# Altium integrated library TI Power Management Power Modules.IntLib: 831 symbols (part 18 of 44)
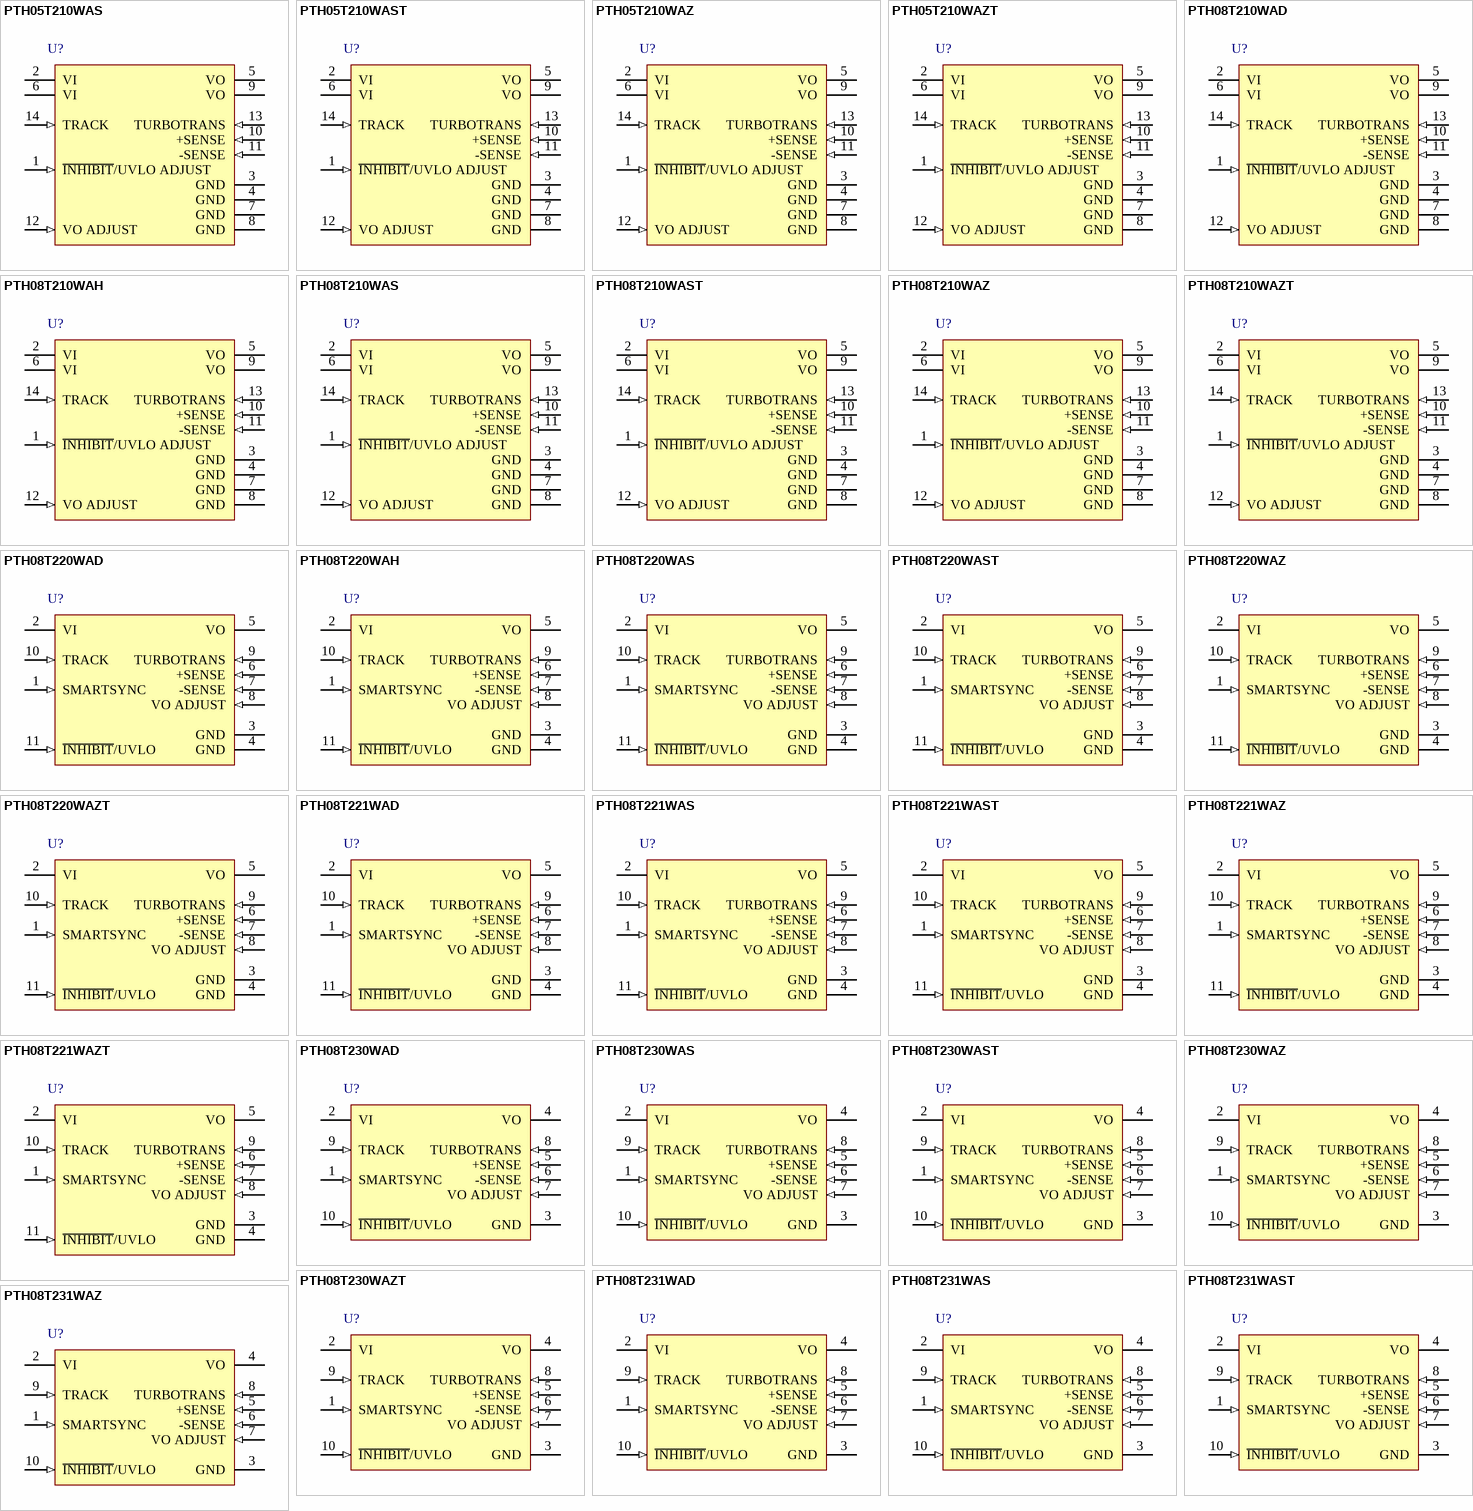
[diagram p40: symbols PTH05T210WAS to PTH08T231WAZ]

## PTH08T230WAZT
designator U?
6 A, 4.5 to 14 V Input, Non-Isolated, Wide Output Adjustable Power Module with TurboTrans, -40 to 85 degC, 10-pin Module (BCM10), Pb-Free (RoHS); Manufacturer: Texas Instruments; PartNumber: PTH08T230WAZT; Iout(Max)(A): 6; Regulated Outputs(#): 1; SubFamily: Non-Isolated POL; Vin(Max)(V): 14; Vin(Min)(V): 4.5; VO Adjustable: TRUE; Vout(Max)(V): 5.5; Vout(Min)(V): 0.69; DatasheetVersion: SLTS265L; PackageVersion: 4207915/E; PackageReference: BCM10; PackageDescription: 10-Pin Plastic Special Shape, Body 15.75 x 18.92 mm; Supplier 1: Digi-Key; Supplier Part Number 1: 296-31711-2-ND; Supplier 2: Digi-Key; Supplier Part Number 2: 296-31711-1-ND; Supplier 3: Digi-Key; Supplier Part Number 3: 296-31711-6-ND; Supplier 4: Newark; Supplier Part Number 4: 03M9755; Supplier 5: Mouser; Supplier Part Number 5: 595-PTH08T230WAZT; Eco-Plan: Pb-Free (RoHS); Mounting Technology: Surface Mount; ComponentLink1Description: Manufacturer URL; ComponentLink1URL: http://www.ti.com/; ComponentLink2Description: Datasheet; ComponentLink2URL: http://www.ti.com/general/docs/lit/getliterature.tsp?genericPartNumber=PTH08T230W&fileType=pdf; ComponentLink3Description: Package Specification; ComponentLink3URL: http://www.ti.com/lit/ml/mpds292d/mpds292d.pdf; ComponentLink4Description: URL Link1; ComponentLink4URL: Samples URL:http://www.ti.com/product/pth08t230w#samples
footprint TI-BCM10_V (10-Leads Double Sided Module, Body 18.92x15.75mm)
pins: 1 SMARTSYNC (in) "This input pin sychronizes the switching frequency of the module to an external clock frequency. The SmartSync feature can be used to sychronize the switching fequency of multiple PTH04T230/231W modules, aiding EMI noise (See Datasheet)", 2 VI (power) "The positive input voltage power node to the module, which is referenced to common GND.", 3 GND (power) "This is the common ground connection for the VI and VO power connections. It is also the 0 Vdc reference for the control inputs.", 4 VO (power) "The regulated positive power output with respect to the GND", 5 +SENSE (in) "The sense input allows the regulation circuit to compensate for voltage drop between the module and the load. For optimal voltage accuracy, +Sense must be connected to VO, close to the load.", 6 -SENSE (in) "The sense input allows the regulation circuit to compensate for voltage drop between the module and the load. For optimal voltage accuracy, -Sense must be connected to GND (pin 3), very close to the module (within 10 cm).", 7 VO ADJUST (in) "A 0.05 W 1% resistor must be directly connected between this pin and pin 6 (- Sense) to set the output voltage to a value higher than 0.69 V. The temperature stability of the resistor should be 100 ppm/degreesC (or better). (See Datasheet)", 8 TURBOTRANS (in) "This input pin adjusts the transient response of the regulator. To activate the TurboTrans feature, a 1%, 0.05 W resistor must be connected between this pin and pin 5 (+Sense) very close to the module. For a given value of (See Datasheet)", 9 TRACK (in) "This is an analog control input that enables the output voltage to follow an external voltage. This pin becomes active typically 20 ms after the input voltage has been applied, and allows direct control of the output voltage (See Datasheet)", 10 ~{INHIBIT}/UVLO (in) "The Inhibit pin is an open-collector/drain, negative logic input that is referenced to GND. Applying a low level ground signal to this input disables the module’s output and turns off the output voltage. When the Inhibit (See Datasheet)"

## PTH08T231WAD
designator U?
6 A, 4.5 to 14 V Input, Ceramic Cap Version, Non-Iso, Wide Output, Adjust Power Module with TurboTrans, -40 to 85 degC, 10-pin Module (ECL10), Pb-Free (RoHS); Manufacturer: Texas Instruments; PartNumber: PTH08T231WAD; Iout(Max)(A): 6; Regulated Outputs(#): 1; SubFamily: Non-Isolated POL; Vin(Max)(V): 14; Vin(Min)(V): 4.5; VO Adjustable: TRUE; Vout(Max)(V): 5.5; Vout(Min)(V): 0.69; DatasheetVersion: SLTS265L; PackageVersion: 4207913/D; PackageReference: ECL10; PackageDescription: 10-Pin Plastic Special Shape, Body 15.75 x 18.92 mm; Supplier 1: Digi-Key; Supplier Part Number 1: 296-21587-ND; Supplier 2: Newark; Supplier Part Number 2: 31M0354; Supplier 3: Mouser; Supplier Part Number 3: 595-PTH08T231WAD; Eco-Plan: Pb-Free (RoHS); Mounting Technology: Through Hole; ComponentLink1Description: Manufacturer URL; ComponentLink1URL: http://www.ti.com/; ComponentLink2Description: Datasheet; ComponentLink2URL: http://www.ti.com/general/docs/lit/getliterature.tsp?genericPartNumber=PTH08T231W&fileType=pdf; ComponentLink3Description: Package Specification; ComponentLink3URL: http://www.ti.com/litv/pdf/mpds290c; ComponentLink4Description: URL Link1; ComponentLink4URL: Samples URL:http://www.ti.com/product/pth08t231w#samples
footprint TI-ECL10_V (Module, 10-Leads, Body 18.92x15.75 mm)
pins: 1 SMARTSYNC (in) "This input pin sychronizes the switching frequency of the module to an external clock frequency. The SmartSync feature can be used to sychronize the switching fequency of multiple PTH04T230/231W modules, aiding EMI noise (See Datasheet)", 2 VI (power) "The positive input voltage power node to the module, which is referenced to common GND.", 3 GND (power) "This is the common ground connection for the VI and VO power connections. It is also the 0 Vdc reference for the control inputs.", 4 VO (power) "The regulated positive power output with respect to the GND", 5 +SENSE (in) "The sense input allows the regulation circuit to compensate for voltage drop between the module and the load. For optimal voltage accuracy, +Sense must be connected to VO, close to the load.", 6 -SENSE (in) "The sense input allows the regulation circuit to compensate for voltage drop between the module and the load. For optimal voltage accuracy, -Sense must be connected to GND (pin 3), very close to the module (within 10 cm).", 7 VO ADJUST (in) "A 0.05 W 1% resistor must be directly connected between this pin and pin 6 (- Sense) to set the output voltage to a value higher than 0.69 V. The temperature stability of the resistor should be 100 ppm/degreesC (or better). (See Datasheet)", 8 TURBOTRANS (in) "This input pin adjusts the transient response of the regulator. To activate the TurboTrans feature, a 1%, 0.05 W resistor must be connected between this pin and pin 5 (+Sense) very close to the module. For a given value of (See Datasheet)", 9 TRACK (in) "This is an analog control input that enables the output voltage to follow an external voltage. This pin becomes active typically 20 ms after the input voltage has been applied, and allows direct control of the output voltage (See Datasheet)", 10 ~{INHIBIT}/UVLO (in) "The Inhibit pin is an open-collector/drain, negative logic input that is referenced to GND. Applying a low level ground signal to this input disables the module’s output and turns off the output voltage. When the Inhibit (See Datasheet)"

## PTH08T231WAS
designator U?
6 A, 4.5 to 14 V Input, Ceramic Cap Version, Non-Iso, Wide Output, Adjust Power Module with TurboTrans, -40 to 85 degC, 10-pin Module (ECM10); Manufacturer: Texas Instruments; PartNumber: PTH08T231WAS; Eco-Plan: TBD; Iout(Max)(A): 6; Regulated Outputs(#): 1; SubFamily: Non-Isolated POL; Vin(Max)(V): 14; Vin(Min)(V): 4.5; VO Adjustable: TRUE; Vout(Max)(V): 5.5; Vout(Min)(V): 0.69; DatasheetVersion: SLTS265L; PackageVersion: 4207914/E; PackageReference: ECM10; PackageDescription: 10-Pin Plastic Special Shape, Body 15.75 x 18.92 mm; Supplier 1: Digi-Key; Supplier Part Number 1: 296-21588-ND; Supplier 2: Farnell; Supplier Part Number 2: 1659630; Supplier 3: Newark; Supplier Part Number 3: 12P7788; Supplier 4: Newark; Supplier Part Number 4: 31M0355; Supplier 5: Mouser; Supplier Part Number 5: 595-PTH08T231WAS; Mounting Technology: Surface Mount; ComponentLink1Description: Manufacturer URL; ComponentLink1URL: http://www.ti.com/; ComponentLink2Description: Datasheet; ComponentLink2URL: http://www.ti.com/general/docs/lit/getliterature.tsp?genericPartNumber=PTH08T231W&fileType=pdf; ComponentLink3Description: Package Specification; ComponentLink3URL: http://www.ti.com/litv/pdf/mpds291d; ComponentLink4Description: URL Link1; ComponentLink4URL: Samples URL:http://www.ti.com/product/pth08t231w#samples
footprint TI-ECM10_V (Module, 10-Leads, Body 18.92x15.75mm)
pins: 1 SMARTSYNC (in) "This input pin sychronizes the switching frequency of the module to an external clock frequency. The SmartSync feature can be used to sychronize the switching fequency of multiple PTH04T230/231W modules, aiding EMI noise (See Datasheet)", 2 VI (power) "The positive input voltage power node to the module, which is referenced to common GND.", 3 GND (power) "This is the common ground connection for the VI and VO power connections. It is also the 0 Vdc reference for the control inputs.", 4 VO (power) "The regulated positive power output with respect to the GND", 5 +SENSE (in) "The sense input allows the regulation circuit to compensate for voltage drop between the module and the load. For optimal voltage accuracy, +Sense must be connected to VO, close to the load.", 6 -SENSE (in) "The sense input allows the regulation circuit to compensate for voltage drop between the module and the load. For optimal voltage accuracy, -Sense must be connected to GND (pin 3), very close to the module (within 10 cm).", 7 VO ADJUST (in) "A 0.05 W 1% resistor must be directly connected between this pin and pin 6 (- Sense) to set the output voltage to a value higher than 0.69 V. The temperature stability of the resistor should be 100 ppm/degreesC (or better). (See Datasheet)", 8 TURBOTRANS (in) "This input pin adjusts the transient response of the regulator. To activate the TurboTrans feature, a 1%, 0.05 W resistor must be connected between this pin and pin 5 (+Sense) very close to the module. For a given value of (See Datasheet)", 9 TRACK (in) "This is an analog control input that enables the output voltage to follow an external voltage. This pin becomes active typically 20 ms after the input voltage has been applied, and allows direct control of the output voltage (See Datasheet)", 10 ~{INHIBIT}/UVLO (in) "The Inhibit pin is an open-collector/drain, negative logic input that is referenced to GND. Applying a low level ground signal to this input disables the module’s output and turns off the output voltage. When the Inhibit (See Datasheet)"

## PTH08T231WAST
designator U?
6 A, 4.5 to 14 V Input, Ceramic Cap Version, Non-Iso, Wide Output, Adjust Power Module with TurboTrans, -40 to 85 degC, 10-pin Module (ECM10); Manufacturer: Texas Instruments; PartNumber: PTH08T231WAST; Eco-Plan: TBD; Iout(Max)(A): 6; Regulated Outputs(#): 1; SubFamily: Non-Isolated POL; Vin(Max)(V): 14; Vin(Min)(V): 4.5; VO Adjustable: TRUE; Vout(Max)(V): 5.5; Vout(Min)(V): 0.69; DatasheetVersion: SLTS265L; PackageVersion: 4207914/E; PackageReference: ECM10; PackageDescription: 10-Pin Plastic Special Shape, Body 15.75 x 18.92 mm; Supplier 1: Digi-Key; Supplier Part Number 1: PTH08T231WAST-ND; Supplier 2: Mouser; Supplier Part Number 2: 595-PTH08T231WAST; Mounting Technology: Surface Mount; ComponentLink1Description: Manufacturer URL; ComponentLink1URL: http://www.ti.com/; ComponentLink2Description: Datasheet; ComponentLink2URL: http://www.ti.com/general/docs/lit/getliterature.tsp?genericPartNumber=PTH08T231W&fileType=pdf; ComponentLink3Description: Package Specification; ComponentLink3URL: http://www.ti.com/litv/pdf/mpds291d; ComponentLink4Description: URL Link1; ComponentLink4URL: Samples URL:http://www.ti.com/product/pth08t231w#samples
footprint TI-ECM10_V (Module, 10-Leads, Body 18.92x15.75mm)
pins: 1 SMARTSYNC (in) "This input pin sychronizes the switching frequency of the module to an external clock frequency. The SmartSync feature can be used to sychronize the switching fequency of multiple PTH04T230/231W modules, aiding EMI noise (See Datasheet)", 2 VI (power) "The positive input voltage power node to the module, which is referenced to common GND.", 3 GND (power) "This is the common ground connection for the VI and VO power connections. It is also the 0 Vdc reference for the control inputs.", 4 VO (power) "The regulated positive power output with respect to the GND", 5 +SENSE (in) "The sense input allows the regulation circuit to compensate for voltage drop between the module and the load. For optimal voltage accuracy, +Sense must be connected to VO, close to the load.", 6 -SENSE (in) "The sense input allows the regulation circuit to compensate for voltage drop between the module and the load. For optimal voltage accuracy, -Sense must be connected to GND (pin 3), very close to the module (within 10 cm).", 7 VO ADJUST (in) "A 0.05 W 1% resistor must be directly connected between this pin and pin 6 (- Sense) to set the output voltage to a value higher than 0.69 V. The temperature stability of the resistor should be 100 ppm/degreesC (or better). (See Datasheet)", 8 TURBOTRANS (in) "This input pin adjusts the transient response of the regulator. To activate the TurboTrans feature, a 1%, 0.05 W resistor must be connected between this pin and pin 5 (+Sense) very close to the module. For a given value of (See Datasheet)", 9 TRACK (in) "This is an analog control input that enables the output voltage to follow an external voltage. This pin becomes active typically 20 ms after the input voltage has been applied, and allows direct control of the output voltage (See Datasheet)", 10 ~{INHIBIT}/UVLO (in) "The Inhibit pin is an open-collector/drain, negative logic input that is referenced to GND. Applying a low level ground signal to this input disables the module’s output and turns off the output voltage. When the Inhibit (See Datasheet)"

## PTH08T231WAZ
designator U?
6 A, 4.5 to 14 V Input, Ceramic Cap Version, Non-Iso, Wide Output, Adjust Power Module with TurboTrans, -40 to 85 degC, 10-pin Module (BCM10), Pb-Free (RoHS); Manufacturer: Texas Instruments; PartNumber: PTH08T231WAZ; Iout(Max)(A): 6; Regulated Outputs(#): 1; SubFamily: Non-Isolated POL; Vin(Max)(V): 14; Vin(Min)(V): 4.5; VO Adjustable: TRUE; Vout(Max)(V): 5.5; Vout(Min)(V): 0.69; DatasheetVersion: SLTS265L; PackageVersion: 4207915/E; PackageReference: BCM10; PackageDescription: 10-Pin Plastic Special Shape, Body 15.75 x 18.92 mm; Supplier 1: Digi-Key; Supplier Part Number 1: 296-21589-ND; Supplier 2: Newark; Supplier Part Number 2: 31M0357; Supplier 3: Mouser; Supplier Part Number 3: 595-PTH08T231WAZ; Eco-Plan: Pb-Free (RoHS); Mounting Technology: Surface Mount; ComponentLink1Description: Manufacturer URL; ComponentLink1URL: http://www.ti.com/; ComponentLink2Description: Datasheet; ComponentLink2URL: http://www.ti.com/general/docs/lit/getliterature.tsp?genericPartNumber=PTH08T231W&fileType=pdf; ComponentLink3Description: Package Specification; ComponentLink3URL: http://www.ti.com/lit/ml/mpds292d/mpds292d.pdf; ComponentLink4Description: URL Link1; ComponentLink4URL: Samples URL:http://www.ti.com/product/pth08t231w#samples
footprint TI-BCM10_V (10-Leads Double Sided Module, Body 18.92x15.75mm)
pins: 1 SMARTSYNC (in) "This input pin sychronizes the switching frequency of the module to an external clock frequency. The SmartSync feature can be used to sychronize the switching fequency of multiple PTH04T230/231W modules, aiding EMI noise (See Datasheet)", 2 VI (power) "The positive input voltage power node to the module, which is referenced to common GND.", 3 GND (power) "This is the common ground connection for the VI and VO power connections. It is also the 0 Vdc reference for the control inputs.", 4 VO (power) "The regulated positive power output with respect to the GND", 5 +SENSE (in) "The sense input allows the regulation circuit to compensate for voltage drop between the module and the load. For optimal voltage accuracy, +Sense must be connected to VO, close to the load.", 6 -SENSE (in) "The sense input allows the regulation circuit to compensate for voltage drop between the module and the load. For optimal voltage accuracy, -Sense must be connected to GND (pin 3), very close to the module (within 10 cm).", 7 VO ADJUST (in) "A 0.05 W 1% resistor must be directly connected between this pin and pin 6 (- Sense) to set the output voltage to a value higher than 0.69 V. The temperature stability of the resistor should be 100 ppm/degreesC (or better). (See Datasheet)", 8 TURBOTRANS (in) "This input pin adjusts the transient response of the regulator. To activate the TurboTrans feature, a 1%, 0.05 W resistor must be connected between this pin and pin 5 (+Sense) very close to the module. For a given value of (See Datasheet)", 9 TRACK (in) "This is an analog control input that enables the output voltage to follow an external voltage. This pin becomes active typically 20 ms after the input voltage has been applied, and allows direct control of the output voltage (See Datasheet)", 10 ~{INHIBIT}/UVLO (in) "The Inhibit pin is an open-collector/drain, negative logic input that is referenced to GND. Applying a low level ground signal to this input disables the module’s output and turns off the output voltage. When the Inhibit (See Datasheet)"

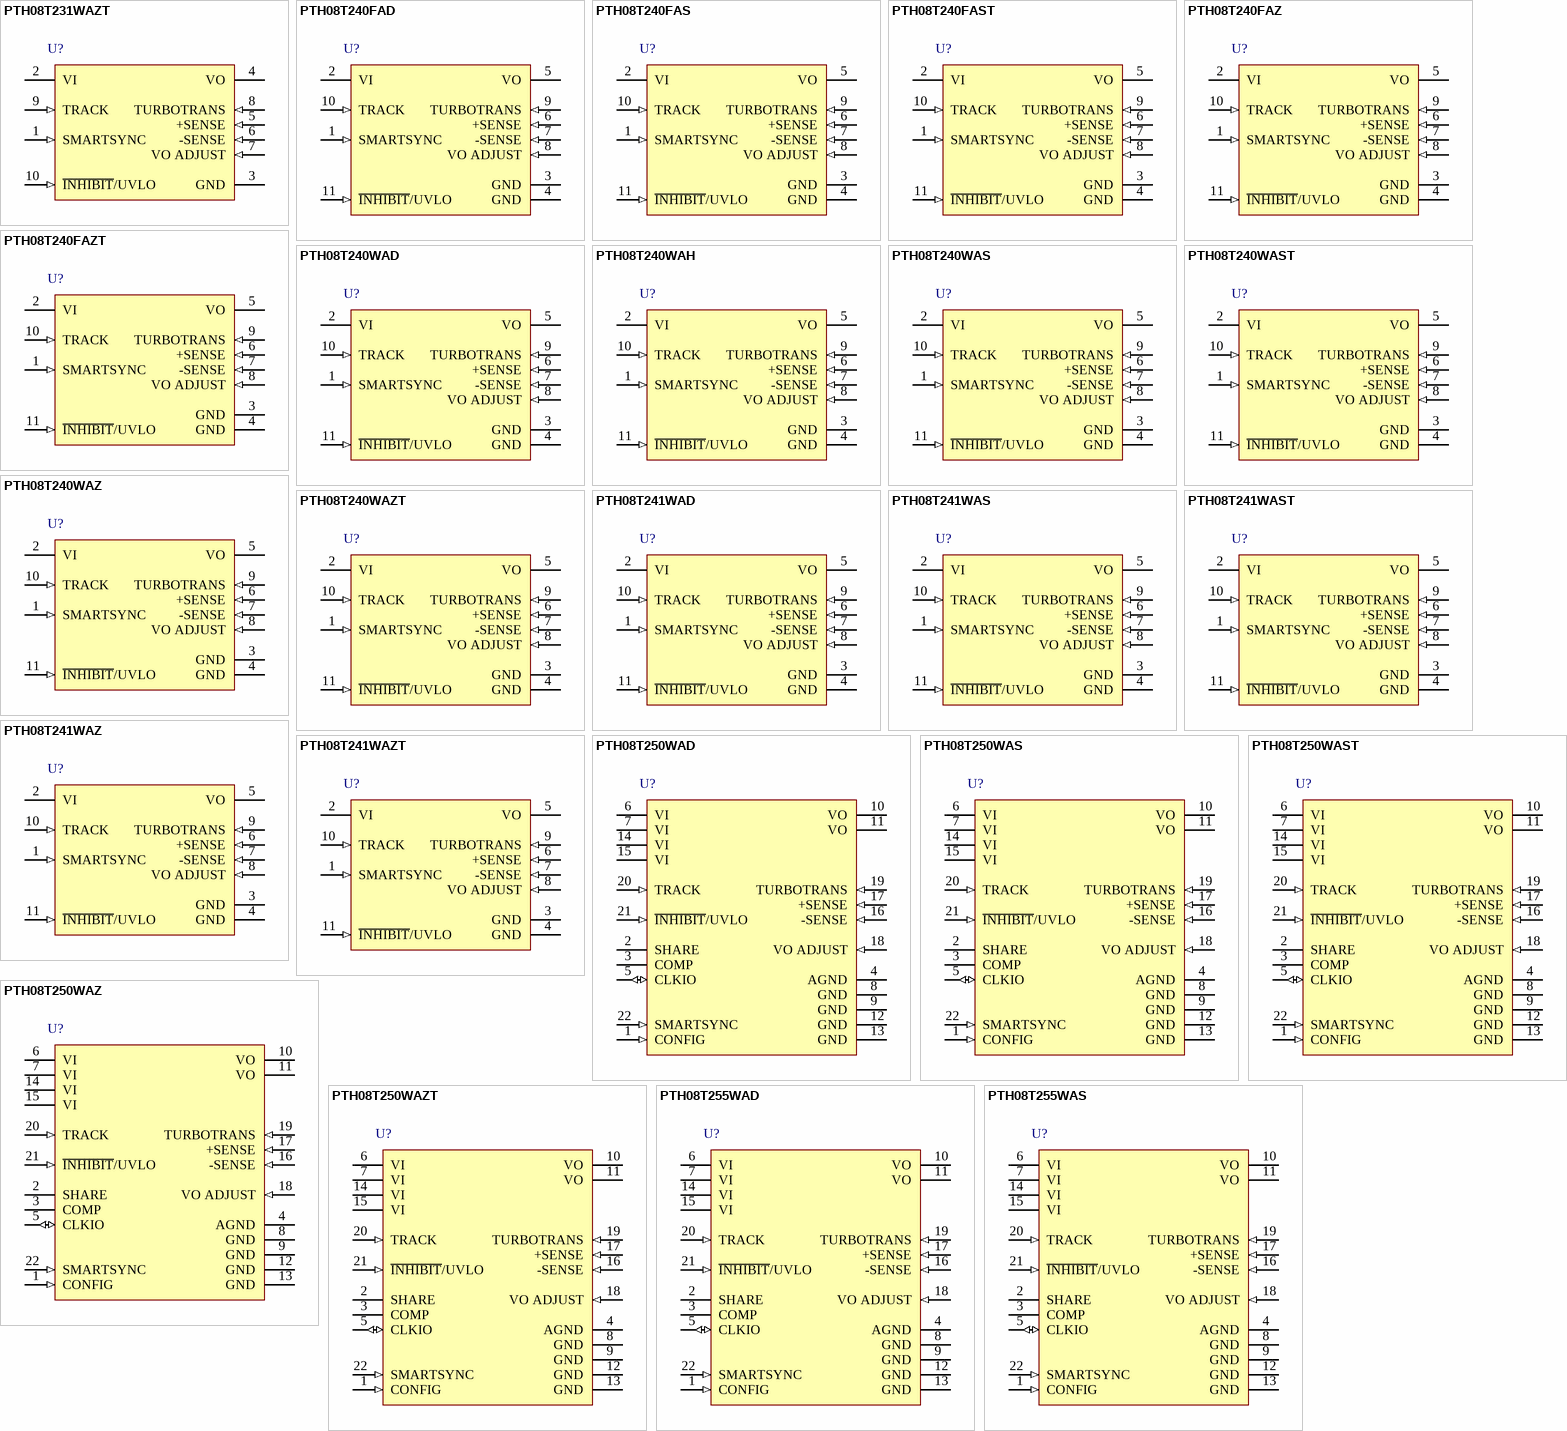
[diagram p11: symbols PTH08T231WAZT to PTH08T255WAS]

## PTH08T231WAZT
designator U?
6 A, 4.5 to 14 V Input, Ceramic Cap Version, Non-Iso, Wide Output, Adjust Power Module with TurboTrans, -40 to 85 degC, 10-pin Module (BCM10), Pb-Free (RoHS); Manufacturer: Texas Instruments; PartNumber: PTH08T231WAZT; Iout(Max)(A): 6; Regulated Outputs(#): 1; SubFamily: Step-Down Module; Vin(Max)(V): 14; Vin(Min)(V): 4.5; VO Adjustable: TRUE; Vout(Max)(V): 5.5; Vout(Min)(V): 0.69; DatasheetVersion: SLTS265L; PackageVersion: 4207915/E; PackageReference: BCM10; PackageDescription: 10-Pin Plastic Special Shape, Body 15.75 x 18.92 mm; Supplier 1: Digi-Key; Supplier Part Number 1: PTH08T231WAZT-ND; Supplier 2: Newark; Supplier Part Number 2: 31M0358; Supplier 3: Mouser; Supplier Part Number 3: 595-PTH08T231WAZT; Eco-Plan: Pb-Free (RoHS); Mounting Technology: Surface Mount; ComponentLink1Description: Manufacturer URL; ComponentLink1URL: http://www.ti.com/; ComponentLink2Description: Datasheet; ComponentLink2URL: http://www.ti.com/general/docs/lit/getliterature.tsp?genericPartNumber=PTH08T231W&fileType=pdf; ComponentLink3Description: Package Specification; ComponentLink3URL: http://www.ti.com/lit/ml/mpds292d/mpds292d.pdf; ComponentLink4Description: URL Link1; ComponentLink4URL: Samples URL:http://www.ti.com/product/pth08t231w
footprint TI-BCM10_V (10-Leads Double Sided Module, Body 18.92x15.75mm)
pins: 1 SMARTSYNC (in) "This input pin sychronizes the switching frequency of the module to an external clock frequency. The SmartSync feature can be used to sychronize the switching fequency of multiple PTH04T230/231W modules, aiding EMI noise (See Datasheet)", 2 VI (power) "The positive input voltage power node to the module, which is referenced to common GND.", 3 GND (power) "This is the common ground connection for the VI and VO power connections. It is also the 0 Vdc reference for the control inputs.", 4 VO (power) "The regulated positive power output with respect to the GND", 5 +SENSE (in) "The sense input allows the regulation circuit to compensate for voltage drop between the module and the load. For optimal voltage accuracy, +Sense must be connected to VO, close to the load.", 6 -SENSE (in) "The sense input allows the regulation circuit to compensate for voltage drop between the module and the load. For optimal voltage accuracy, -Sense must be connected to GND (pin 3), very close to the module (within 10 cm).", 7 VO ADJUST (in) "A 0.05 W 1% resistor must be directly connected between this pin and pin 6 (- Sense) to set the output voltage to a value higher than 0.69 V. The temperature stability of the resistor should be 100 ppm/degreesC (or better). (See Datasheet)", 8 TURBOTRANS (in) "This input pin adjusts the transient response of the regulator. To activate the TurboTrans feature, a 1%, 0.05 W resistor must be connected between this pin and pin 5 (+Sense) very close to the module. For a given value of (See Datasheet)", 9 TRACK (in) "This is an analog control input that enables the output voltage to follow an external voltage. This pin becomes active typically 20 ms after the input voltage has been applied, and allows direct control of the output voltage (See Datasheet)", 10 ~{INHIBIT}/UVLO (in) "The Inhibit pin is an open-collector/drain, negative logic input that is referenced to GND. Applying a low level ground signal to this input disables the module’s output and turns off the output voltage. When the Inhibit (See Datasheet)"

## PTH08T240FAD
designator U?
10 A, 4.5 to 14 V Input, Power Module for 3-GHz DSP Systems, -40 to 85 degC, 11-pin Module (EBS11), Pb-Free (RoHS); Manufacturer: Texas Instruments; PartNumber: PTH08T240FAD; Iout(Max)(A): 10; Regulated Outputs(#): 1; SubFamily: Non-Isolated POL; Vin(Max)(V): 14; Vin(Min)(V): 4.5; VO Adjustable: TRUE; Vout(Max)(V): 2; Vout(Min)(V): 0.69; DatasheetVersion: SLTS277D; PackageVersion: 4207365/D; PackageReference: EBS11; PackageDescription: 11-Pin Plastic Special Shape, Body 15.75 x 22.1 mm; Supplier 1: Digi-Key; Supplier Part Number 1: 296-22771-ND; Supplier 2: Newark; Supplier Part Number 2: 61M8455; Supplier 3: Mouser; Supplier Part Number 3: 595-PTH08T240FAD; Eco-Plan: Pb-Free (RoHS); Mounting Technology: Through Hole; ComponentLink1Description: Manufacturer URL; ComponentLink1URL: http://www.ti.com/; ComponentLink2Description: Datasheet; ComponentLink2URL: http://www.ti.com/general/docs/lit/getliterature.tsp?genericPartNumber=PTH08T240F&fileType=pdf; ComponentLink3Description: Package Specification; ComponentLink3URL: http://www.ti.com/litv/pdf/mpds230c; ComponentLink4Description: URL Link1; ComponentLink4URL: Samples URL:http://www.ti.com/product/pth08t240f#samples
footprint TI-EBS11_V (Module, 11-Leads, Body 22.1x15.75mm)
pins: 1 SMARTSYNC (in) "This input pin sychronizes the switching frequency of the module to an external clock frequency. The SmartSync feature can be used to sychronize the switching fequency of multiple PTH08T220/221W modules, aiding EMI noise (See Datasheet)", 2 VI (power) "The positive input voltage power node to the module, which is referenced to common GND.", 3 GND (power) "This is the common ground connection for the VI and VO power connections. It is also the 0 Vdc reference for the control inputs.", 4 GND (power) "This is the common ground connection for the VI and VO power connections. It is also the 0 Vdc reference for the control inputs.", 5 VO (power) "The regulated positive power output with respect to GND.", 6 +SENSE (in) "The sense input allows the regulation circuit to compensate for voltage drop between the module and the load. For optimal voltage accuracy, +Sense must be connected to VO, very close to the load.", 7 -SENSE (in) "The sense input allows the regulation circuit to compensate for voltage drop between the module and the load. For optimal voltage accuracy -Sense must be connected to GND (pin4) very close to the module (within 10cm).", 8 VO ADJUST (in) "A 0.05 W 1% resistor must be directly connected between this pin and pin7 (-Sense) to set the output voltage to a value higher than 0.69V. The temperature stability of the resistor should be 100 ppm/degreesC (or better). The (See Datasheet)", 9 TURBOTRANS (in) "This input pin adjusts the transient response of the regulator. To activate the TurboTrans? feature, a 1%, 50mW resistor must be connected between this pin and pin 6 (+Sense) very close to the module. For a given value of (See Datasheet)", 10 TRACK (in) "This is an analog control input that enables the output voltage to follow an external voltage. This pin becomes active typically 20 ms after the input voltage has been applied, and allows direct control of the output voltage (See Datasheet)", 11 ~{INHIBIT}/UVLO (in) "The Inhibit pin is an open-collector/drain, negative logic input that is referenced to GND. Applying a low level ground signal to this input disables the module’s output and turns off the output voltage. When the Inhibit (See Datasheet)"

## PTH08T240FAS
designator U?
10 A, 4.5 to 14 V Input, Power Module for 3-GHz DSP Systems, -40 to 85 degC, 11-pin Module (EBT11); Manufacturer: Texas Instruments; PartNumber: PTH08T240FAS; Eco-Plan: TBD; Iout(Max)(A): 10; Regulated Outputs(#): 1; SubFamily: Non-Isolated POL; Vin(Max)(V): 14; Vin(Min)(V): 4.5; VO Adjustable: TRUE; Vout(Max)(V): 2; Vout(Min)(V): 0.69; DatasheetVersion: SLTS277D; PackageVersion: 4207366/E; PackageReference: EBT11; PackageDescription: 11-Pin Plastic Special Shape, Body 15.75 x 22.1 mm; Supplier 1: Digi-Key; Supplier Part Number 1: PTH08T240FAS-ND; Supplier 2: Newark; Supplier Part Number 2: 61M8456; Supplier 3: Mouser; Supplier Part Number 3: 595-PTH08T240FAS; Mounting Technology: Surface Mount; ComponentLink1Description: Manufacturer URL; ComponentLink1URL: http://www.ti.com/; ComponentLink2Description: Datasheet; ComponentLink2URL: http://www.ti.com/general/docs/lit/getliterature.tsp?genericPartNumber=PTH08T240F&fileType=pdf; ComponentLink3Description: Package Specification; ComponentLink3URL: http://www.ti.com/litv/pdf/mpds231d; ComponentLink4Description: URL Link1; ComponentLink4URL: Samples URL:http://www.ti.com/product/pth08t240f#samples
footprint TI-EBT11_V (Module, 11-Leads, Body 22.1x15.75mm)
pins: 1 SMARTSYNC (in) "This input pin sychronizes the switching frequency of the module to an external clock frequency. The SmartSync feature can be used to sychronize the switching fequency of multiple PTH08T220/221W modules, aiding EMI noise (See Datasheet)", 2 VI (power) "The positive input voltage power node to the module, which is referenced to common GND.", 3 GND (power) "This is the common ground connection for the VI and VO power connections. It is also the 0 Vdc reference for the control inputs.", 4 GND (power) "This is the common ground connection for the VI and VO power connections. It is also the 0 Vdc reference for the control inputs.", 5 VO (power) "The regulated positive power output with respect to GND.", 6 +SENSE (in) "The sense input allows the regulation circuit to compensate for voltage drop between the module and the load. For optimal voltage accuracy, +Sense must be connected to VO, very close to the load.", 7 -SENSE (in) "The sense input allows the regulation circuit to compensate for voltage drop between the module and the load. For optimal voltage accuracy -Sense must be connected to GND (pin4) very close to the module (within 10cm).", 8 VO ADJUST (in) "A 0.05 W 1% resistor must be directly connected between this pin and pin7 (-Sense) to set the output voltage to a value higher than 0.69V. The temperature stability of the resistor should be 100 ppm/degreesC (or better). The (See Datasheet)", 9 TURBOTRANS (in) "This input pin adjusts the transient response of the regulator. To activate the TurboTrans? feature, a 1%, 50mW resistor must be connected between this pin and pin 6 (+Sense) very close to the module. For a given value of (See Datasheet)", 10 TRACK (in) "This is an analog control input that enables the output voltage to follow an external voltage. This pin becomes active typically 20 ms after the input voltage has been applied, and allows direct control of the output voltage (See Datasheet)", 11 ~{INHIBIT}/UVLO (in) "The Inhibit pin is an open-collector/drain, negative logic input that is referenced to GND. Applying a low level ground signal to this input disables the module’s output and turns off the output voltage. When the Inhibit (See Datasheet)"

## PTH08T240FAST
designator U?
10 A, 4.5 to 14 V Input, Power Module for 3-GHz DSP Systems, -40 to 85 degC, 11-pin Module (EBT11); Manufacturer: Texas Instruments; PartNumber: PTH08T240FAST; Eco-Plan: TBD; Iout(Max)(A): 10; Regulated Outputs(#): 1; SubFamily: Non-Isolated POL; Vin(Max)(V): 14; Vin(Min)(V): 4.5; VO Adjustable: TRUE; Vout(Max)(V): 2; Vout(Min)(V): 0.69; DatasheetVersion: SLTS277D; PackageVersion: 4207366/E; PackageReference: EBT11; PackageDescription: 11-Pin Plastic Special Shape, Body 15.75 x 22.1 mm; Supplier 1: Digi-Key; Supplier Part Number 1: PTH08T240FAST-ND; Supplier 2: Newark; Supplier Part Number 2: 61M8457; Supplier 3: Mouser; Supplier Part Number 3: 595-PTH08T240FAST; Mounting Technology: Surface Mount; ComponentLink1Description: Manufacturer URL; ComponentLink1URL: http://www.ti.com/; ComponentLink2Description: Datasheet; ComponentLink2URL: http://www.ti.com/general/docs/lit/getliterature.tsp?genericPartNumber=PTH08T240F&fileType=pdf; ComponentLink3Description: Package Specification; ComponentLink3URL: http://www.ti.com/litv/pdf/mpds231d; ComponentLink4Description: URL Link1; ComponentLink4URL: Samples URL:http://www.ti.com/product/pth08t240f#samples
footprint TI-EBT11_V (Module, 11-Leads, Body 22.1x15.75mm)
pins: 1 SMARTSYNC (in) "This input pin sychronizes the switching frequency of the module to an external clock frequency. The SmartSync feature can be used to sychronize the switching fequency of multiple PTH08T220/221W modules, aiding EMI noise (See Datasheet)", 2 VI (power) "The positive input voltage power node to the module, which is referenced to common GND.", 3 GND (power) "This is the common ground connection for the VI and VO power connections. It is also the 0 Vdc reference for the control inputs.", 4 GND (power) "This is the common ground connection for the VI and VO power connections. It is also the 0 Vdc reference for the control inputs.", 5 VO (power) "The regulated positive power output with respect to GND.", 6 +SENSE (in) "The sense input allows the regulation circuit to compensate for voltage drop between the module and the load. For optimal voltage accuracy, +Sense must be connected to VO, very close to the load.", 7 -SENSE (in) "The sense input allows the regulation circuit to compensate for voltage drop between the module and the load. For optimal voltage accuracy -Sense must be connected to GND (pin4) very close to the module (within 10cm).", 8 VO ADJUST (in) "A 0.05 W 1% resistor must be directly connected between this pin and pin7 (-Sense) to set the output voltage to a value higher than 0.69V. The temperature stability of the resistor should be 100 ppm/degreesC (or better). The (See Datasheet)", 9 TURBOTRANS (in) "This input pin adjusts the transient response of the regulator. To activate the TurboTrans? feature, a 1%, 50mW resistor must be connected between this pin and pin 6 (+Sense) very close to the module. For a given value of (See Datasheet)", 10 TRACK (in) "This is an analog control input that enables the output voltage to follow an external voltage. This pin becomes active typically 20 ms after the input voltage has been applied, and allows direct control of the output voltage (See Datasheet)", 11 ~{INHIBIT}/UVLO (in) "The Inhibit pin is an open-collector/drain, negative logic input that is referenced to GND. Applying a low level ground signal to this input disables the module’s output and turns off the output voltage. When the Inhibit (See Datasheet)"

## PTH08T240FAZ
designator U?
10 A, 4.5 to 14 V Input, Power Module for 3-GHz DSP Systems, -40 to 85 degC, 11-pin Module (BBT11), Pb-Free (RoHS); Manufacturer: Texas Instruments; PartNumber: PTH08T240FAZ; Iout(Max)(A): 10; Regulated Outputs(#): 1; SubFamily: Non-Isolated POL; Vin(Max)(V): 14; Vin(Min)(V): 4.5; VO Adjustable: TRUE; Vout(Max)(V): 2; Vout(Min)(V): 0.69; DatasheetVersion: SLTS277D; PackageVersion: 4207716/E; PackageReference: BBT11; PackageDescription: 11-Pin Plastic Special Shape, Body 15.75 x 22.1 mm; Supplier 1: Digi-Key; Supplier Part Number 1: 296-22772-ND; Supplier 2: Newark; Supplier Part Number 2: 61M8458; Supplier 3: Mouser; Supplier Part Number 3: 595-PTH08T240FAZ; Eco-Plan: Pb-Free (RoHS); Mounting Technology: Surface Mount; ComponentLink1Description: Manufacturer URL; ComponentLink1URL: http://www.ti.com/; ComponentLink2Description: Datasheet; ComponentLink2URL: http://www.ti.com/general/docs/lit/getliterature.tsp?genericPartNumber=PTH08T240F&fileType=pdf; ComponentLink3Description: Package Specification; ComponentLink3URL: http://www.ti.com/lit/ml/mpds265d/mpds265d.pdf; ComponentLink4Description: URL Link1; ComponentLink4URL: Samples URL:http://www.ti.com/product/pth08t240f#samples
footprint TI-BBT11_V (11-Leads Double Sided Module, Body 22.1x15.75mm)
pins: 1 SMARTSYNC (in) "This input pin sychronizes the switching frequency of the module to an external clock frequency. The SmartSync feature can be used to sychronize the switching fequency of multiple PTH08T220/221W modules, aiding EMI noise (See Datasheet)", 2 VI (power) "The positive input voltage power node to the module, which is referenced to common GND.", 3 GND (power) "This is the common ground connection for the VI and VO power connections. It is also the 0 Vdc reference for the control inputs.", 4 GND (power) "This is the common ground connection for the VI and VO power connections. It is also the 0 Vdc reference for the control inputs.", 5 VO (power) "The regulated positive power output with respect to GND.", 6 +SENSE (in) "The sense input allows the regulation circuit to compensate for voltage drop between the module and the load. For optimal voltage accuracy, +Sense must be connected to VO, very close to the load.", 7 -SENSE (in) "The sense input allows the regulation circuit to compensate for voltage drop between the module and the load. For optimal voltage accuracy -Sense must be connected to GND (pin4) very close to the module (within 10cm).", 8 VO ADJUST (in) "A 0.05 W 1% resistor must be directly connected between this pin and pin7 (-Sense) to set the output voltage to a value higher than 0.69V. The temperature stability of the resistor should be 100 ppm/degreesC (or better). The (See Datasheet)", 9 TURBOTRANS (in) "This input pin adjusts the transient response of the regulator. To activate the TurboTrans? feature, a 1%, 50mW resistor must be connected between this pin and pin 6 (+Sense) very close to the module. For a given value of (See Datasheet)", 10 TRACK (in) "This is an analog control input that enables the output voltage to follow an external voltage. This pin becomes active typically 20 ms after the input voltage has been applied, and allows direct control of the output voltage (See Datasheet)", 11 ~{INHIBIT}/UVLO (in) "The Inhibit pin is an open-collector/drain, negative logic input that is referenced to GND. Applying a low level ground signal to this input disables the module’s output and turns off the output voltage. When the Inhibit (See Datasheet)"

## PTH08T240FAZT
designator U?
10 A, 4.5 to 14 V Input, Power Module for 3-GHz DSP Systems, -40 to 85 degC, 11-pin Module (BBT11), Pb-Free (RoHS); Manufacturer: Texas Instruments; PartNumber: PTH08T240FAZT; Iout(Max)(A): 10; Regulated Outputs(#): 1; SubFamily: Non-Isolated POL; Vin(Max)(V): 14; Vin(Min)(V): 4.5; VO Adjustable: TRUE; Vout(Max)(V): 2; Vout(Min)(V): 0.69; DatasheetVersion: SLTS277D; PackageVersion: 4207716/E; PackageReference: BBT11; PackageDescription: 11-Pin Plastic Special Shape, Body 15.75 x 22.1 mm; Supplier 1: Digi-Key; Supplier Part Number 1: PTH08T240FAZT-ND; Supplier 2: Newark; Supplier Part Number 2: 61M8459; Supplier 3: Mouser; Supplier Part Number 3: 595-PTH08T240FAZT; Eco-Plan: Pb-Free (RoHS); Mounting Technology: Surface Mount; ComponentLink1Description: Manufacturer URL; ComponentLink1URL: http://www.ti.com/; ComponentLink2Description: Datasheet; ComponentLink2URL: http://www.ti.com/general/docs/lit/getliterature.tsp?genericPartNumber=PTH08T240F&fileType=pdf; ComponentLink3Description: Package Specification; ComponentLink3URL: http://www.ti.com/lit/ml/mpds265d/mpds265d.pdf; ComponentLink4Description: URL Link1; ComponentLink4URL: Samples URL:http://www.ti.com/product/pth08t240f#samples
footprint TI-BBT11_V (11-Leads Double Sided Module, Body 22.1x15.75mm)
pins: 1 SMARTSYNC (in) "This input pin sychronizes the switching frequency of the module to an external clock frequency. The SmartSync feature can be used to sychronize the switching fequency of multiple PTH08T220/221W modules, aiding EMI noise (See Datasheet)", 2 VI (power) "The positive input voltage power node to the module, which is referenced to common GND.", 3 GND (power) "This is the common ground connection for the VI and VO power connections. It is also the 0 Vdc reference for the control inputs.", 4 GND (power) "This is the common ground connection for the VI and VO power connections. It is also the 0 Vdc reference for the control inputs.", 5 VO (power) "The regulated positive power output with respect to GND.", 6 +SENSE (in) "The sense input allows the regulation circuit to compensate for voltage drop between the module and the load. For optimal voltage accuracy, +Sense must be connected to VO, very close to the load.", 7 -SENSE (in) "The sense input allows the regulation circuit to compensate for voltage drop between the module and the load. For optimal voltage accuracy -Sense must be connected to GND (pin4) very close to the module (within 10cm).", 8 VO ADJUST (in) "A 0.05 W 1% resistor must be directly connected between this pin and pin7 (-Sense) to set the output voltage to a value higher than 0.69V. The temperature stability of the resistor should be 100 ppm/degreesC (or better). The (See Datasheet)", 9 TURBOTRANS (in) "This input pin adjusts the transient response of the regulator. To activate the TurboTrans? feature, a 1%, 50mW resistor must be connected between this pin and pin 6 (+Sense) very close to the module. For a given value of (See Datasheet)", 10 TRACK (in) "This is an analog control input that enables the output voltage to follow an external voltage. This pin becomes active typically 20 ms after the input voltage has been applied, and allows direct control of the output voltage (See Datasheet)", 11 ~{INHIBIT}/UVLO (in) "The Inhibit pin is an open-collector/drain, negative logic input that is referenced to GND. Applying a low level ground signal to this input disables the module’s output and turns off the output voltage. When the Inhibit (See Datasheet)"

## PTH08T240WAD
designator U?
10 A, 4.5 to 14 V Input, Non-Isolated, Wide Output Adjustable Power Module with TurboTrans, -40 to 85 degC, 11-pin Module (EBS11), Pb-Free (RoHS); Manufacturer: Texas Instruments; PartNumber: PTH08T240WAD; Iout(Max)(A): 10; Regulated Outputs(#): 1; SubFamily: Non-Isolated POL; Vin(Max)(V): 14; Vin(Min)(V): 4.5; VO Adjustable: TRUE; Vout(Max)(V): 5.5; Vout(Min)(V): 0.69; DatasheetVersion: SLTS264J; PackageVersion: 4207365/D; PackageReference: EBS11; PackageDescription: 11-Pin Plastic Special Shape, Body 15.75 x 22.1 mm; Supplier 1: Digi-Key; Supplier Part Number 1: 296-20442-ND; Supplier 2: Farnell; Supplier Part Number 2: 1755099; Supplier 3: Farnell; Supplier Part Number 3: 1273086; Supplier 4: Newark; Supplier Part Number 4: 71K9425; Supplier 5: Mouser; Supplier Part Number 5: 595-PTH08T240WAD; Eco-Plan: Pb-Free (RoHS); Mounting Technology: Through Hole; ComponentLink1Description: Manufacturer URL; ComponentLink1URL: http://www.ti.com/; ComponentLink2Description: Datasheet; ComponentLink2URL: http://www.ti.com/general/docs/lit/getliterature.tsp?genericPartNumber=PTH08T240W&fileType=pdf; ComponentLink3Description: Package Specification; ComponentLink3URL: http://www.ti.com/litv/pdf/mpds230c; ComponentLink4Description: URL Link1; ComponentLink4URL: Samples URL:http://www.ti.com/product/pth08t240w#samples
footprint TI-EBS11_V (Module, 11-Leads, Body 22.1x15.75mm)
pins: 1 SMARTSYNC (in) "This input pin sychronizes the switching frequency of the module to an external clock frequency. The SmartSync feature can be used to sychronize the switching fequency of multiple PTH08T220/221W modules, aiding EMI noise (See Datasheet)", 2 VI (power) "The positive input voltage power node to the module, which is referenced to common GND.", 3 GND (power) "This is the common ground connection for the VI and VO power connections. It is also the 0 Vdc reference for the control inputs.", 4 GND (power) "This is the common ground connection for the VI and VO power connections. It is also the 0 Vdc reference for the control inputs.", 5 VO (power) "The regulated positive power output with respect to GND.", 6 +SENSE (in) "The sense input allows the regulation circuit to compensate for voltage drop between the module and the load. For optimal voltage accuracy, +Sense must be connected to VO, very close to the load.", 7 -SENSE (in) "The sense input allows the regulation circuit to compensate for voltage drop between the module and the load. For optimal voltage accuracy -Sense must be connected to GND (pin4) very close to the module (within 10cm).", 8 VO ADJUST (in) "A 0.05 W 1% resistor must be directly connected between this pin and pin7 (-Sense) to set the output voltage to a value higher than 0.69V. The temperature stability of the resistor should be 100 ppm/degreesC (or better). The (See Datasheet)", 9 TURBOTRANS (in) "This input pin adjusts the transient response of the regulator. To activate the TurboTrans? feature, a 1%, 50mW resistor must be connected between this pin and pin 6 (+Sense) very close to the module. For a given value of (See Datasheet)", 10 TRACK (in) "This is an analog control input that enables the output voltage to follow an external voltage. This pin becomes active typically 20 ms after the input voltage has been applied, and allows direct control of the output voltage (See Datasheet)", 11 ~{INHIBIT}/UVLO (in) "The Inhibit pin is an open-collector/drain, negative logic input that is referenced to GND. Applying a low level ground signal to this input disables the module’s output and turns off the output voltage. When the Inhibit (See Datasheet)"

## PTH08T240WAH
designator U?
10 A, 4.5 to 14 V Input, Non-Isolated, Wide Output Adjustable Power Module with TurboTrans, -40 to 85 degC, 11-pin Module (EBS11), Pb-Free (RoHS); Manufacturer: Texas Instruments; PartNumber: PTH08T240WAH; Iout(Max)(A): 10; Regulated Outputs(#): 1; SubFamily: Non-Isolated POL; Vin(Max)(V): 14; Vin(Min)(V): 4.5; VO Adjustable: TRUE; Vout(Max)(V): 5.5; Vout(Min)(V): 0.69; DatasheetVersion: SLTS264J; PackageVersion: 4207365/D; PackageReference: EBS11; PackageDescription: 11-Pin Plastic Special Shape, Body 15.75 x 22.1 mm; Supplier 1: Digi-Key; Supplier Part Number 1: 296-20443-ND; Supplier 2: Newark; Supplier Part Number 2: 74M8353; Supplier 3: Mouser; Supplier Part Number 3: 595-PTH08T240WAH; Eco-Plan: Pb-Free (RoHS); Mounting Technology: Through Hole; ComponentLink1Description: Manufacturer URL; ComponentLink1URL: http://www.ti.com/; ComponentLink2Description: Datasheet; ComponentLink2URL: http://www.ti.com/general/docs/lit/getliterature.tsp?genericPartNumber=PTH08T240W&fileType=pdf; ComponentLink3Description: Package Specification; ComponentLink3URL: http://www.ti.com/litv/pdf/mpds230c; ComponentLink4Description: URL Link1; ComponentLink4URL: Samples URL:http://www.ti.com/product/pth08t240w#samples
footprint TI-EBS11_V (Module, 11-Leads, Body 22.1x15.75mm)
pins: 1 SMARTSYNC (in) "This input pin sychronizes the switching frequency of the module to an external clock frequency. The SmartSync feature can be used to sychronize the switching fequency of multiple PTH08T220/221W modules, aiding EMI noise (See Datasheet)", 2 VI (power) "The positive input voltage power node to the module, which is referenced to common GND.", 3 GND (power) "This is the common ground connection for the VI and VO power connections. It is also the 0 Vdc reference for the control inputs.", 4 GND (power) "This is the common ground connection for the VI and VO power connections. It is also the 0 Vdc reference for the control inputs.", 5 VO (power) "The regulated positive power output with respect to GND.", 6 +SENSE (in) "The sense input allows the regulation circuit to compensate for voltage drop between the module and the load. For optimal voltage accuracy, +Sense must be connected to VO, very close to the load.", 7 -SENSE (in) "The sense input allows the regulation circuit to compensate for voltage drop between the module and the load. For optimal voltage accuracy -Sense must be connected to GND (pin4) very close to the module (within 10cm).", 8 VO ADJUST (in) "A 0.05 W 1% resistor must be directly connected between this pin and pin7 (-Sense) to set the output voltage to a value higher than 0.69V. The temperature stability of the resistor should be 100 ppm/degreesC (or better). The (See Datasheet)", 9 TURBOTRANS (in) "This input pin adjusts the transient response of the regulator. To activate the TurboTrans? feature, a 1%, 50mW resistor must be connected between this pin and pin 6 (+Sense) very close to the module. For a given value of (See Datasheet)", 10 TRACK (in) "This is an analog control input that enables the output voltage to follow an external voltage. This pin becomes active typically 20 ms after the input voltage has been applied, and allows direct control of the output voltage (See Datasheet)", 11 ~{INHIBIT}/UVLO (in) "The Inhibit pin is an open-collector/drain, negative logic input that is referenced to GND. Applying a low level ground signal to this input disables the module’s output and turns off the output voltage. When the Inhibit (See Datasheet)"

## PTH08T240WAS
designator U?
10 A, 4.5 to 14 V Input, Non-Isolated, Wide Output Adjustable Power Module with TurboTrans, -40 to 85 degC, 11-pin Module (EBT11); Manufacturer: Texas Instruments; PartNumber: PTH08T240WAS; Eco-Plan: TBD; Iout(Max)(A): 10; Regulated Outputs(#): 1; SubFamily: Non-Isolated POL; Vin(Max)(V): 14; Vin(Min)(V): 4.5; VO Adjustable: TRUE; Vout(Max)(V): 5.5; Vout(Min)(V): 0.69; DatasheetVersion: SLTS264J; PackageVersion: 4207366/E; PackageReference: EBT11; PackageDescription: 11-Pin Plastic Special Shape, Body 15.75 x 22.1 mm; Supplier 1: Digi-Key; Supplier Part Number 1: 296-20444-ND; Supplier 2: Newark; Supplier Part Number 2: 71K9427; Supplier 3: Mouser; Supplier Part Number 3: 595-PTH08T240WAS; Mounting Technology: Surface Mount; ComponentLink1Description: Manufacturer URL; ComponentLink1URL: http://www.ti.com/; ComponentLink2Description: Datasheet; ComponentLink2URL: http://www.ti.com/general/docs/lit/getliterature.tsp?genericPartNumber=PTH08T240W&fileType=pdf; ComponentLink3Description: Package Specification; ComponentLink3URL: http://www.ti.com/litv/pdf/mpds231d; ComponentLink4Description: URL Link1; ComponentLink4URL: Samples URL:http://www.ti.com/product/pth08t240w#samples
footprint TI-EBT11_V (Module, 11-Leads, Body 22.1x15.75mm)
pins: 1 SMARTSYNC (in) "This input pin sychronizes the switching frequency of the module to an external clock frequency. The SmartSync feature can be used to sychronize the switching fequency of multiple PTH08T220/221W modules, aiding EMI noise (See Datasheet)", 2 VI (power) "The positive input voltage power node to the module, which is referenced to common GND.", 3 GND (power) "This is the common ground connection for the VI and VO power connections. It is also the 0 Vdc reference for the control inputs.", 4 GND (power) "This is the common ground connection for the VI and VO power connections. It is also the 0 Vdc reference for the control inputs.", 5 VO (power) "The regulated positive power output with respect to GND.", 6 +SENSE (in) "The sense input allows the regulation circuit to compensate for voltage drop between the module and the load. For optimal voltage accuracy, +Sense must be connected to VO, very close to the load.", 7 -SENSE (in) "The sense input allows the regulation circuit to compensate for voltage drop between the module and the load. For optimal voltage accuracy -Sense must be connected to GND (pin4) very close to the module (within 10cm).", 8 VO ADJUST (in) "A 0.05 W 1% resistor must be directly connected between this pin and pin7 (-Sense) to set the output voltage to a value higher than 0.69V. The temperature stability of the resistor should be 100 ppm/degreesC (or better). The (See Datasheet)", 9 TURBOTRANS (in) "This input pin adjusts the transient response of the regulator. To activate the TurboTrans? feature, a 1%, 50mW resistor must be connected between this pin and pin 6 (+Sense) very close to the module. For a given value of (See Datasheet)", 10 TRACK (in) "This is an analog control input that enables the output voltage to follow an external voltage. This pin becomes active typically 20 ms after the input voltage has been applied, and allows direct control of the output voltage (See Datasheet)", 11 ~{INHIBIT}/UVLO (in) "The Inhibit pin is an open-collector/drain, negative logic input that is referenced to GND. Applying a low level ground signal to this input disables the module’s output and turns off the output voltage. When the Inhibit (See Datasheet)"